# EAGLE library part EP1C6Q240C7N (library altera)
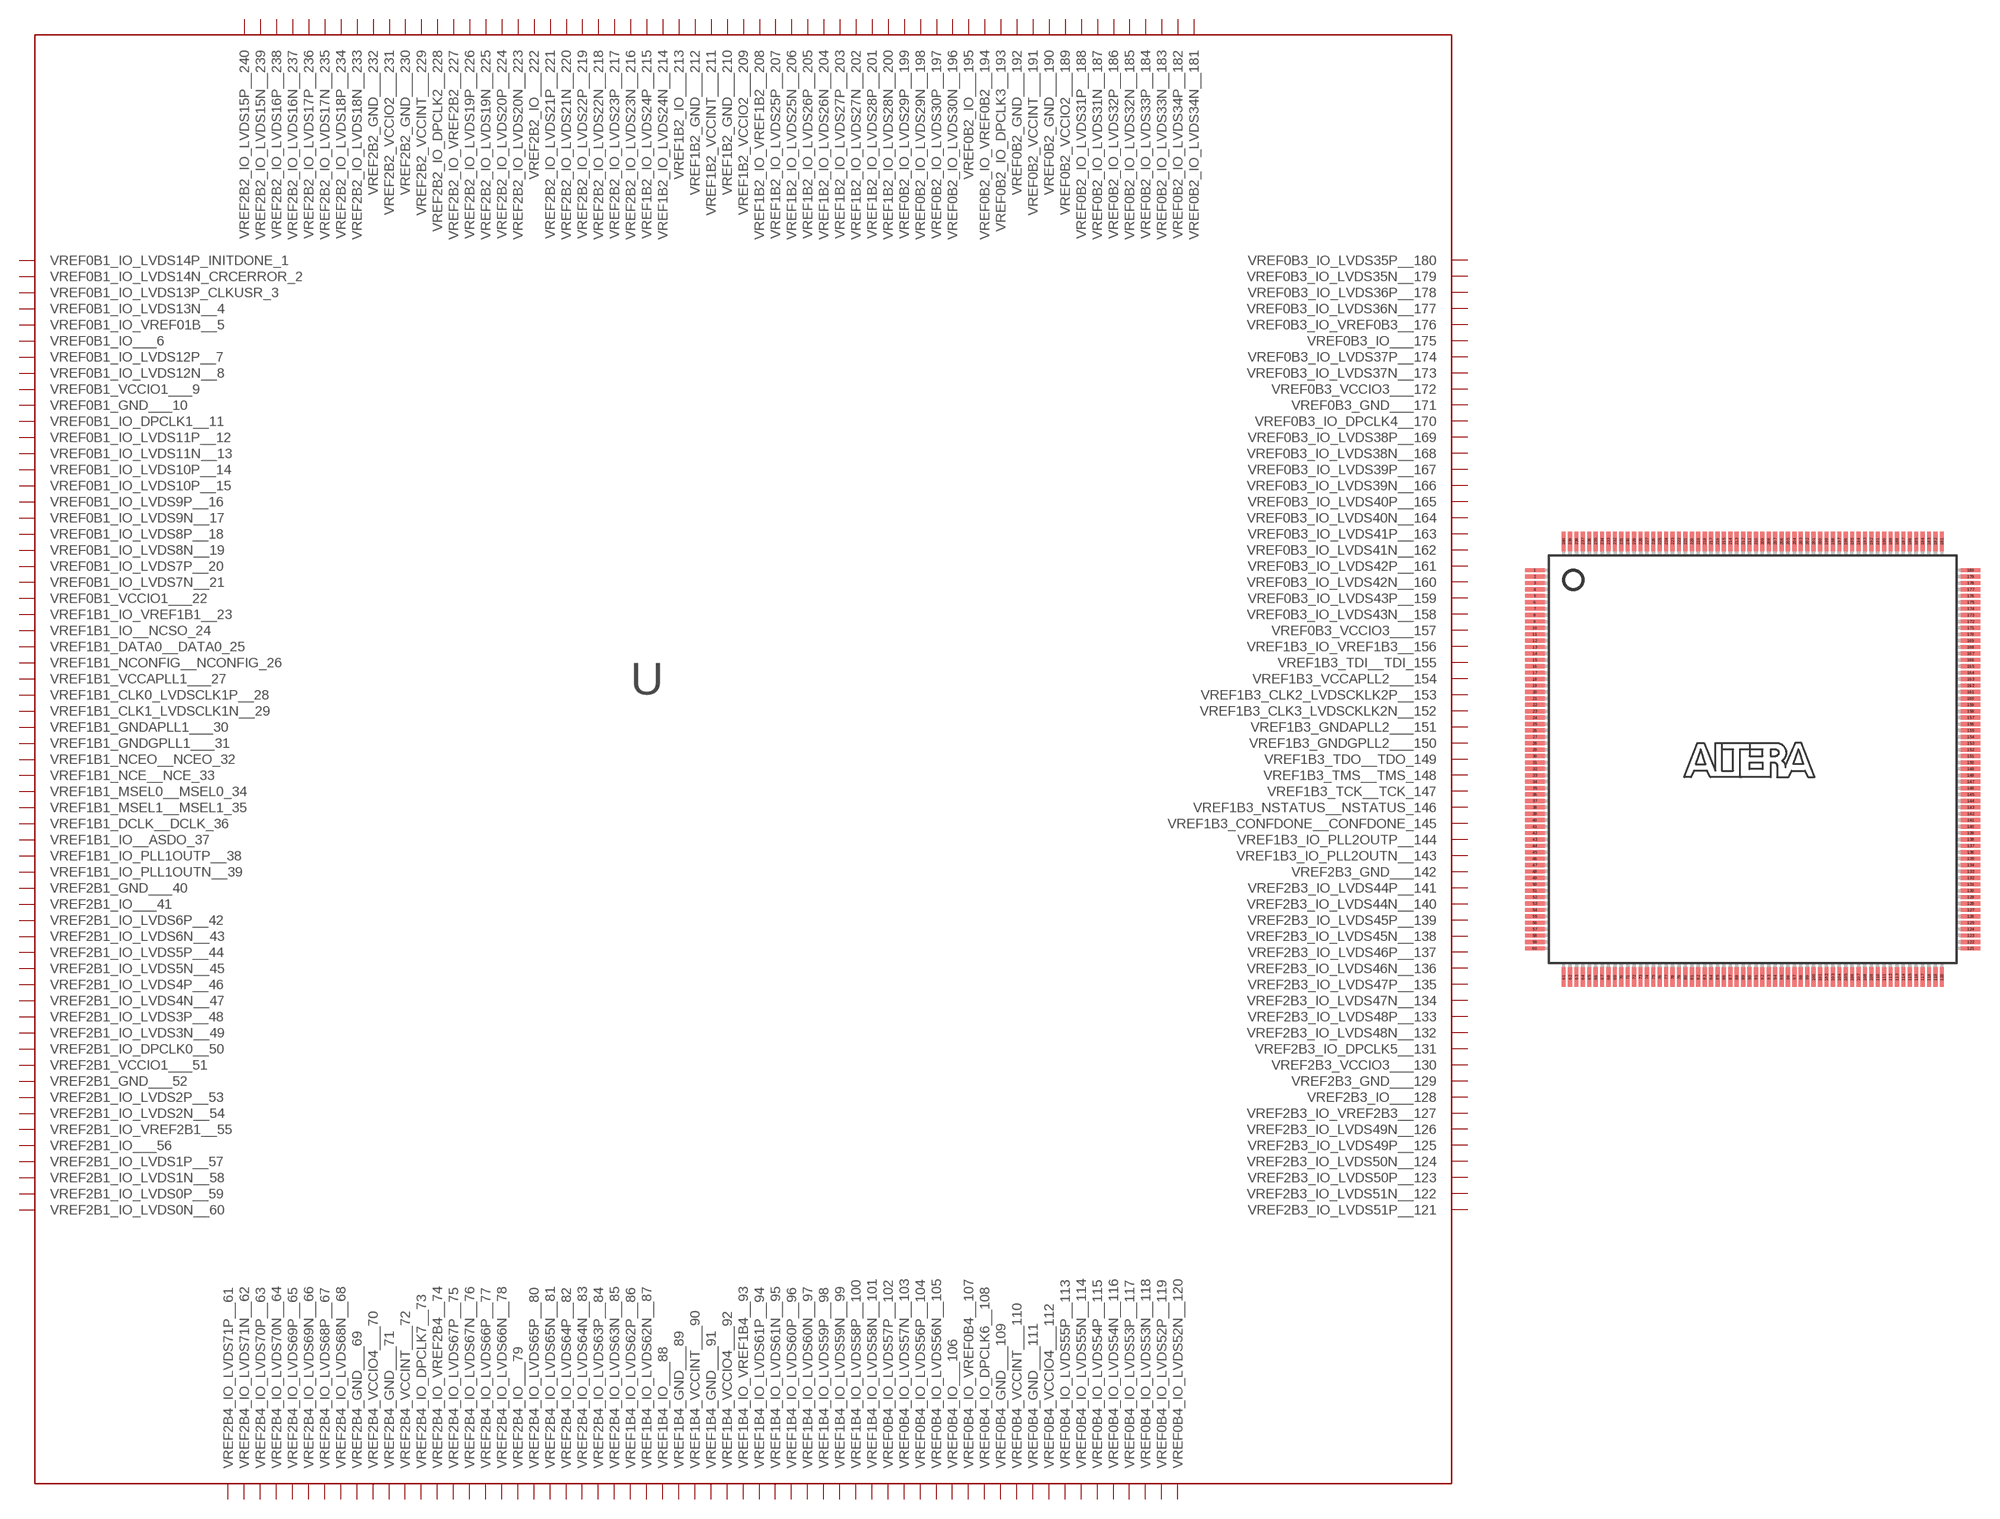
[diagram p62: symbol with the pads of PQFP240; footprint PQFP240]

Designator prefix -

## EP1C6Q240C7N  [PQFP240]
1  VREF0B1_IO_LVDS14P_INITDONE_1
2  VREF0B1_IO_LVDS14N_CRCERROR_2
3  VREF0B1_IO_LVDS13P_CLKUSR_3
4  VREF0B1_IO_LVDS13N__4
5  VREF0B1_IO_VREF01B__5
6  VREF0B1_IO___6
7  VREF0B1_IO_LVDS12P__7
8  VREF0B1_IO_LVDS12N__8
9  VREF0B1_VCCIO1___9
10  VREF0B1_GND___10
11  VREF0B1_IO_DPCLK1__11
12  VREF0B1_IO_LVDS11P__12
13  VREF0B1_IO_LVDS11N__13
14  VREF0B1_IO_LVDS10P__14
15  VREF0B1_IO_LVDS10P__15
16  VREF0B1_IO_LVDS9P__16
17  VREF0B1_IO_LVDS9N__17
18  VREF0B1_IO_LVDS8P__18
19  VREF0B1_IO_LVDS8N__19
20  VREF0B1_IO_LVDS7P__20
21  VREF0B1_IO_LVDS7N__21
22  VREF0B1_VCCIO1___22
23  VREF1B1_IO_VREF1B1__23
24  VREF1B1_IO__NCSO_24
25  VREF1B1_DATA0__DATA0_25
26  VREF1B1_NCONFIG__NCONFIG_26
27  VREF1B1_VCCAPLL1___27
28  VREF1B1_CLK0_LVDSCLK1P__28
29  VREF1B1_CLK1_LVDSCLK1N__29
30  VREF1B1_GNDAPLL1___30
31  VREF1B1_GNDGPLL1___31
32  VREF1B1_NCEO__NCEO_32
33  VREF1B1_NCE__NCE_33
34  VREF1B1_MSEL0__MSEL0_34
35  VREF1B1_MSEL1__MSEL1_35
36  VREF1B1_DCLK__DCLK_36
37  VREF1B1_IO__ASDO_37
38  VREF1B1_IO_PLL1OUTP__38
39  VREF1B1_IO_PLL1OUTN__39
40  VREF2B1_GND___40
41  VREF2B1_IO___41
42  VREF2B1_IO_LVDS6P__42
43  VREF2B1_IO_LVDS6N__43
44  VREF2B1_IO_LVDS5P__44
45  VREF2B1_IO_LVDS5N__45
46  VREF2B1_IO_LVDS4P__46
47  VREF2B1_IO_LVDS4N__47
48  VREF2B1_IO_LVDS3P__48
49  VREF2B1_IO_LVDS3N__49
50  VREF2B1_IO_DPCLK0__50
51  VREF2B1_VCCIO1___51
52  VREF2B1_GND___52
53  VREF2B1_IO_LVDS2P__53
54  VREF2B1_IO_LVDS2N__54
55  VREF2B1_IO_VREF2B1__55
56  VREF2B1_IO___56
57  VREF2B1_IO_LVDS1P__57
58  VREF2B1_IO_LVDS1N__58
59  VREF2B1_IO_LVDS0P__59
60  VREF2B1_IO_LVDS0N__60
61  VREF2B4_IO_LVDS71P__61
62  VREF2B4_IO_LVDS71N__62
63  VREF2B4_IO_LVDS70P__63
64  VREF2B4_IO_LVDS70N__64
65  VREF2B4_IO_LVDS69P__65
66  VREF2B4_IO_LVDS69N__66
67  VREF2B4_IO_LVDS68P__67
68  VREF2B4_IO_LVDS68N__68
69  VREF2B4_GND___69
70  VREF2B4_VCCIO4___70
71  VREF2B4_GND___71
72  VREF2B4_VCCINT___72
73  VREF2B4_IO_DPCLK7__73
74  VREF2B4_IO_VREF2B4__74
75  VREF2B4_IO_LVDS67P__75
76  VREF2B4_IO_LVDS67N__76
77  VREF2B4_IO_LVDS66P__77
78  VREF2B4_IO_LVDS66N__78
79  VREF2B4_IO___79
80  VREF2B4_IO_LVDS65P__80
81  VREF2B4_IO_LVDS65N__81
82  VREF2B4_IO_LVDS64P__82
83  VREF2B4_IO_LVDS64N__83
84  VREF2B4_IO_LVDS63P__84
85  VREF2B4_IO_LVDS63N__85
86  VREF1B4_IO_LVDS62P__86
87  VREF1B4_IO_LVDS62N__87
88  VREF1B4_IO___88
89  VREF1B4_GND___89
90  VREF1B4_VCCINT___90
91  VREF1B4_GND___91
92  VREF1B4_VCCIO4___92
93  VREF1B4_IO_VREF1B4__93
94  VREF1B4_IO_LVDS61P__94
95  VREF1B4_IO_LVDS61N__95
96  VREF1B4_IO_LVDS60P__96
97  VREF1B4_IO_LVDS60N__97
98  VREF1B4_IO_LVDS59P__98
99  VREF1B4_IO_LVDS59N__99
100  VREF1B4_IO_LVDS58P__100
101  VREF1B4_IO_LVDS58N__101
102  VREF0B4_IO_LVDS57P__102
103  VREF0B4_IO_LVDS57N__103
104  VREF0B4_IO_LVDS56P__104
105  VREF0B4_IO_LVDS56N__105
106  VREF0B4_IO___106
107  VREF0B4_IO_VREF0B4__107
108  VREF0B4_IO_DPCLK6__108
109  VREF0B4_GND___109
110  VREF0B4_VCCINT___110
111  VREF0B4_GND___111
112  VREF0B4_VCCIO4___112
113  VREF0B4_IO_LVDS55P__113
114  VREF0B4_IO_LVDS55N__114
115  VREF0B4_IO_LVDS54P__115
116  VREF0B4_IO_LVDS54N__116
117  VREF0B4_IO_LVDS53P__117
118  VREF0B4_IO_LVDS53N__118
119  VREF0B4_IO_LVDS52P__119
120  VREF0B4_IO_LVDS52N__120
121  VREF2B3_IO_LVDS51P__121
122  VREF2B3_IO_LVDS51N__122
123  VREF2B3_IO_LVDS50P__123
124  VREF2B3_IO_LVDS50N__124
125  VREF2B3_IO_LVDS49P__125
126  VREF2B3_IO_LVDS49N__126
127  VREF2B3_IO_VREF2B3__127
128  VREF2B3_IO___128
129  VREF2B3_GND___129
130  VREF2B3_VCCIO3___130
131  VREF2B3_IO_DPCLK5__131
132  VREF2B3_IO_LVDS48N__132
133  VREF2B3_IO_LVDS48P__133
134  VREF2B3_IO_LVDS47N__134
135  VREF2B3_IO_LVDS47P__135
136  VREF2B3_IO_LVDS46N__136
137  VREF2B3_IO_LVDS46P__137
138  VREF2B3_IO_LVDS45N__138
139  VREF2B3_IO_LVDS45P__139
140  VREF2B3_IO_LVDS44N__140
141  VREF2B3_IO_LVDS44P__141
142  VREF2B3_GND___142
143  VREF1B3_IO_PLL2OUTN__143
144  VREF1B3_IO_PLL2OUTP__144
145  VREF1B3_CONFDONE__CONFDONE_145
146  VREF1B3_NSTATUS__NSTATUS_146
147  VREF1B3_TCK__TCK_147
148  VREF1B3_TMS__TMS_148
149  VREF1B3_TDO__TDO_149
150  VREF1B3_GNDGPLL2___150
151  VREF1B3_GNDAPLL2___151
152  VREF1B3_CLK3_LVDSCKLK2N__152
153  VREF1B3_CLK2_LVDSCKLK2P__153
154  VREF1B3_VCCAPLL2___154
155  VREF1B3_TDI__TDI_155
156  VREF1B3_IO_VREF1B3__156
157  VREF0B3_VCCIO3___157
158  VREF0B3_IO_LVDS43N__158
159  VREF0B3_IO_LVDS43P__159
160  VREF0B3_IO_LVDS42N__160
161  VREF0B3_IO_LVDS42P__161
162  VREF0B3_IO_LVDS41N__162
163  VREF0B3_IO_LVDS41P__163
164  VREF0B3_IO_LVDS40N__164
165  VREF0B3_IO_LVDS40P__165
166  VREF0B3_IO_LVDS39N__166
167  VREF0B3_IO_LVDS39P__167
168  VREF0B3_IO_LVDS38N__168
169  VREF0B3_IO_LVDS38P__169
170  VREF0B3_IO_DPCLK4__170
171  VREF0B3_GND___171
172  VREF0B3_VCCIO3___172
173  VREF0B3_IO_LVDS37N__173
174  VREF0B3_IO_LVDS37P__174
175  VREF0B3_IO___175
176  VREF0B3_IO_VREF0B3__176
177  VREF0B3_IO_LVDS36N__177
178  VREF0B3_IO_LVDS36P__178
179  VREF0B3_IO_LVDS35N__179
180  VREF0B3_IO_LVDS35P__180
181  VREF0B2_IO_LVDS34N__181
182  VREF0B2_IO_LVDS34P__182
183  VREF0B2_IO_LVDS33N__183
184  VREF0B2_IO_LVDS33P__184
185  VREF0B2_IO_LVDS32N__185
186  VREF0B2_IO_LVDS32P__186
187  VREF0B2_IO_LVDS31N__187
188  VREF0B2_IO_LVDS31P__188
189  VREF0B2_VCCIO2___189
190  VREF0B2_GND___190
191  VREF0B2_VCCINT___191
192  VREF0B2_GND___192
193  VREF0B2_IO_DPCLK3__193
194  VREF0B2_IO_VREF0B2__194
195  VREF0B2_IO___195
196  VREF0B2_IO_LVDS30N__196
197  VREF0B2_IO_LVDS30P__197
198  VREF0B2_IO_LVDS29N__198
199  VREF0B2_IO_LVDS29P__199
200  VREF1B2_IO_LVDS28N__200
201  VREF1B2_IO_LVDS28P__201
202  VREF1B2_IO_LVDS27N__202
203  VREF1B2_IO_LVDS27P__203
204  VREF1B2_IO_LVDS26N__204
205  VREF1B2_IO_LVDS26P__205
206  VREF1B2_IO_LVDS25N__206
207  VREF1B2_IO_LVDS25P__207
208  VREF1B2_IO_VREF1B2__208
209  VREF1B2_VCCIO2___209
210  VREF1B2_GND___210
211  VREF1B2_VCCINT___211
212  VREF1B2_GND___212
213  VREF1B2_IO___213
214  VREF1B2_IO_LVDS24N__214
215  VREF1B2_IO_LVDS24P__215
216  VREF2B2_IO_LVDS23N__216
217  VREF2B2_IO_LVDS23P__217
218  VREF2B2_IO_LVDS22N__218
219  VREF2B2_IO_LVDS22P__219
220  VREF2B2_IO_LVDS21N__220
221  VREF2B2_IO_LVDS21P__221
222  VREF2B2_IO___222
223  VREF2B2_IO_LVDS20N__223
224  VREF2B2_IO_LVDS20P__224
225  VREF2B2_IO_LVDS19N__225
226  VREF2B2_IO_LVDS19P__226
227  VREF2B2_IO_VREF2B2__227
228  VREF2B2_IO_DPCLK2__228
229  VREF2B2_VCCINT___229
230  VREF2B2_GND___230
231  VREF2B2_VCCIO2___231
232  VREF2B2_GND___232
233  VREF2B2_IO_LVDS18N__233
234  VREF2B2_IO_LVDS18P__234
235  VREF2B2_IO_LVDS17N__235
236  VREF2B2_IO_LVDS17P__236
237  VREF2B2_IO_LVDS16N__237
238  VREF2B2_IO_LVDS16P__238
239  VREF2B2_IO_LVDS15N__239
240  VREF2B2_IO_LVDS15P__240

## Footprint PQFP240 (pad centres in mm)
Plastic Quad Flat Pack
smd 1.5 x 0.32: 1 -17,14.75; 2 -17,14.25; 3 -17,13.75; 4 -17,13.25; 5 -17,12.75; 6 -17,12.25; 7 -17,11.75; 8 -17,11.25; 9 -17,10.75; 10 -17,10.25; 11 -17,9.75; 12 -17,9.25; 13 -17,8.75; 14 -17,8.25; 15 -17,7.75; 16 -17,7.25; 17 -17,6.75; 18 -17,6.25; 19 -17,5.75; 20 -17,5.25; 21 -17,4.75; 22 -17,4.25; 23 -17,3.75; 24 -17,3.25; 25 -17,2.75; 26 -17,2.25; 27 -17,1.75; 28 -17,1.25; 29 -17,0.75; 30 -17,0.25; 31 -17,-0.25; 32 -17,-0.75; 33 -17,-1.25; 34 -17,-1.75; 35 -17,-2.25; 36 -17,-2.75; 37 -17,-3.25; 38 -17,-3.75; 39 -17,-4.25; 40 -17,-4.75; 41 -17,-5.25; 42 -17,-5.75; 43 -17,-6.25; 44 -17,-6.75; 45 -17,-7.25; 46 -17,-7.75; 47 -17,-8.25; 48 -17,-8.75; 49 -17,-9.25; 50 -17,-9.75; 51 -17,-10.25; 52 -17,-10.75; 53 -17,-11.25; 54 -17,-11.75; 55 -17,-12.25; 56 -17,-12.75; 57 -17,-13.25; 58 -17,-13.75; 59 -17,-14.25; 60 -17,-14.75; 121 17,-14.75; 122 17,-14.25; 123 17,-13.75; 124 17,-13.25; 125 17,-12.75; 126 17,-12.25; 127 17,-11.75; 128 17,-11.25; 129 17,-10.75; 130 17,-10.25; 131 17,-9.75; 132 17,-9.25; 133 17,-8.75; 134 17,-8.25; 135 17,-7.75; 136 17,-7.25; 137 17,-6.75; 138 17,-6.25; 139 17,-5.75; 140 17,-5.25; 141 17,-4.75; 142 17,-4.25; 143 17,-3.75; 144 17,-3.25; 145 17,-2.75; 146 17,-2.25; 147 17,-1.75; 148 17,-1.25; 149 17,-0.75; 150 17,-0.25; 151 17,0.25; 152 17,0.75; 153 17,1.25; 154 17,1.75; 155 17,2.25; 156 17,2.75; 157 17,3.25; 158 17,3.75; 159 17,4.25; 160 17,4.75; 161 17,5.25; 162 17,5.75; 163 17,6.25; 164 17,6.75; 165 17,7.25; 166 17,7.75; 167 17,8.25; 168 17,8.75; 169 17,9.25; 170 17,9.75; 171 17,10.25; 172 17,10.75; 173 17,11.25; 174 17,11.75; 175 17,12.25; 176 17,12.75; 177 17,13.25; 178 17,13.75; 179 17,14.25; 180 17,14.75
smd 0.32 x 1.5: 61 -14.75,-17; 62 -14.25,-17; 63 -13.75,-17; 64 -13.25,-17; 65 -12.75,-17; 66 -12.25,-17; 67 -11.75,-17; 68 -11.25,-17; 69 -10.75,-17; 70 -10.25,-17; 71 -9.75,-17; 72 -9.25,-17; 73 -8.75,-17; 74 -8.25,-17; 75 -7.75,-17; 76 -7.25,-17; 77 -6.75,-17; 78 -6.25,-17; 79 -5.75,-17; 80 -5.25,-17; 81 -4.75,-17; 82 -4.25,-17; 83 -3.75,-17; 84 -3.25,-17; 85 -2.75,-17; 86 -2.25,-17; 87 -1.75,-17; 88 -1.25,-17; 89 -0.75,-17; 90 -0.25,-17; 91 0.25,-17; 92 0.75,-17; 93 1.25,-17; 94 1.75,-17; 95 2.25,-17; 96 2.75,-17; 97 3.25,-17; 98 3.75,-17; 99 4.25,-17; 100 4.75,-17; 101 5.25,-17; 102 5.75,-17; 103 6.25,-17; 104 6.75,-17; 105 7.25,-17; 106 7.75,-17; 107 8.25,-17; 108 8.75,-17; 109 9.25,-17; 110 9.75,-17; 111 10.25,-17; 112 10.75,-17; 113 11.25,-17; 114 11.75,-17; 115 12.25,-17; 116 12.75,-17; 117 13.25,-17; 118 13.75,-17; 119 14.25,-17; 120 14.75,-17; 181 14.75,17; 182 14.25,17; 183 13.75,17; 184 13.25,17; 185 12.75,17; 186 12.25,17; 187 11.75,17; 188 11.25,17; 189 10.75,17; 190 10.25,17; 191 9.75,17; 192 9.25,17; 193 8.75,17; 194 8.25,17; 195 7.75,17; 196 7.25,17; 197 6.75,17; 198 6.25,17; 199 5.75,17; 200 5.25,17; 201 4.75,17; 202 4.25,17; 203 3.75,17; 204 3.25,17; 205 2.75,17; 206 2.25,17; 207 1.75,17; 208 1.25,17; 209 0.75,17; 210 0.25,17; 211 -0.25,17; 212 -0.75,17; 213 -1.25,17; 214 -1.75,17; 215 -2.25,17; 216 -2.75,17; 217 -3.25,17; 218 -3.75,17; 219 -4.25,17; 220 -4.75,17; 221 -5.25,17; 222 -5.75,17; 223 -6.25,17; 224 -6.75,17; 225 -7.25,17; 226 -7.75,17; 227 -8.25,17; 228 -8.75,17; 229 -9.25,17; 230 -9.75,17; 231 -10.25,17; 232 -10.75,17; 233 -11.25,17; 234 -11.75,17; 235 -12.25,17; 236 -12.75,17; 237 -13.25,17; 238 -13.75,17; 239 -14.25,17; 240 -14.75,17